# EAGLE library part TOGGLE-DPDT-RIGHT (library Switch)
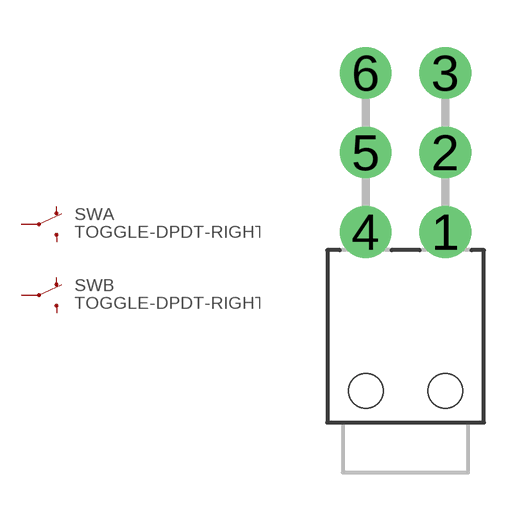
[diagram p0: symbol with the pads of TOGGLE_DPDT-RIGHT; footprint TOGGLE_DPDT-RIGHT]

Designator prefix SW; gates A=SWITCH3P B=SWITCH3P

## TOGGLE-DPDT-RIGHT  [TOGGLE_DPDT-RIGHT]
1  A:A  pas
2  A:COM  pas
3  A:B  pas
4  B:A  pas
5  B:COM  pas
6  B:B  pas

## Footprint TOGGLE_DPDT-RIGHT (pad centres in mm)
drill 1.1: 1 1.27,0; 2 1.27,2.54; 3 1.27,5.08; 4 -1.27,0; 5 -1.27,2.54; 6 -1.27,5.08
hole 1.1 at -1.27,-5.08
hole 1.1 at 1.27,-5.08